# Altium schematic symbol library SCH - POWER - SWITCHMODE - TI TPS62175DQC.SchLib: 1 symbol
Pins are listed as number, name and electrical type; pins without a type are passive.

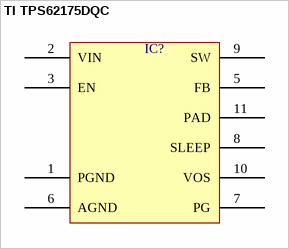
[diagram p0: symbol TI TPS62175DQC]

## TI TPS62175DQC
designator IC?  (value not drawn)
pins: 1 PGND, 2 VIN, 3 EN, 5 FB, 6 AGND, 7 PG, 8 SLEEP, 9 SW, 10 VOS, 11 PAD